# Altium footprint library COMPONENTES.PcbLib: 191 footprints (part 2 of 12)
Each footprint in its own frame and in the unit in brackets; x right, y up, seen from the top. Pads: shape width x height; smd on the part's side, far side on the other; paste and mask are expansions set on the pad; w line width, h text height; cw(c..) or ccw(c..) is an arc to the next point about the centre after c.
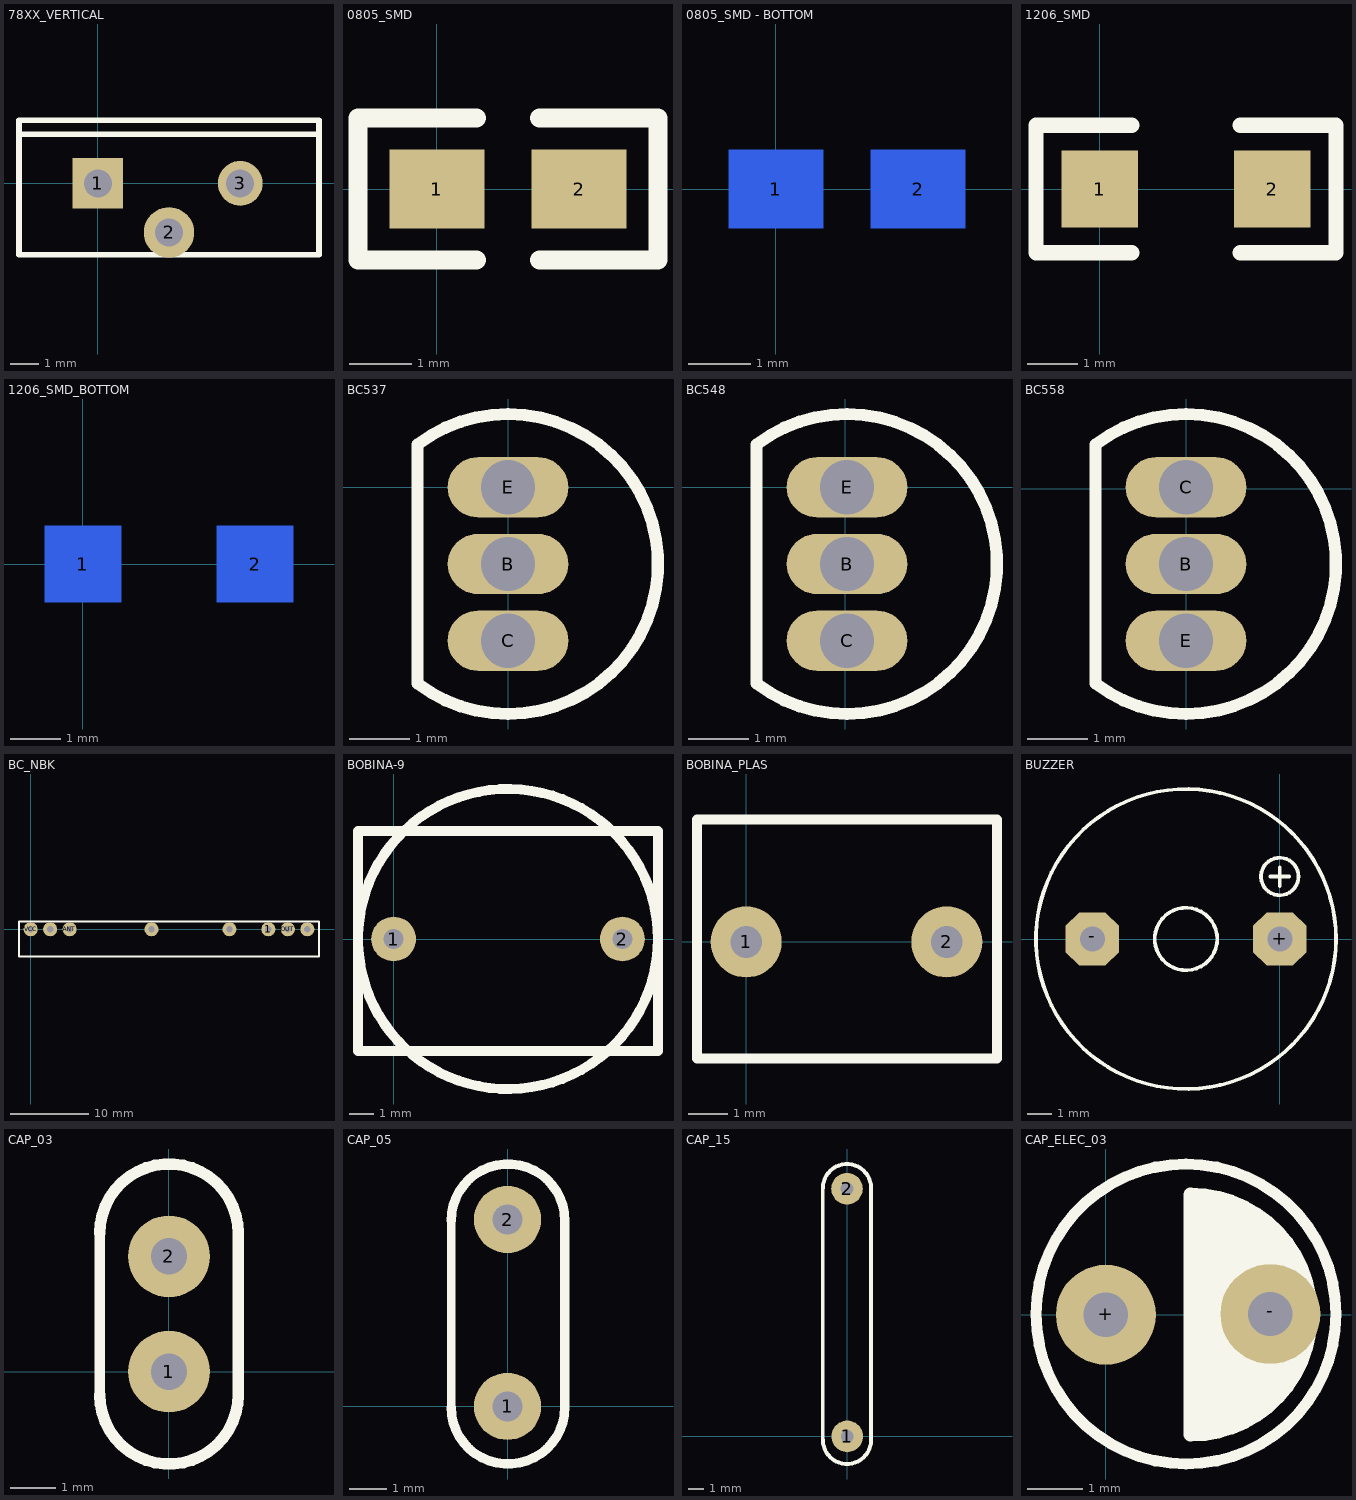
[diagram p1: the footprints below, top view; thin cyan lines are the x and y axes]

## 78XX_VERTICAL [mm] "TO, Thru-Hole, Vertical, Heatsink Mounted; 3 In-Line Leads; Pitch 2.54 mm"
height 19.1
pads (3):
  rect 1.8x1.8 hole 1: 1(0,0)
  round 1.8 hole 1: 2(2.54,-1.75)
  round 1.6 hole 1: 3(5.08,0)
Top Overlay:
  lines w0.2: -2.81,1.75 7.89,1.75 ; -2.81,-2.55 -2.81,2.25 7.89,2.25 7.89,-2.55 -2.81,-2.55

## 0805_SMD [mil]
height 104.33
pads (2):
  rect 60x50 smd: 1(0,0) 2(90,0)
Top Overlay:
  lines w12: 25,-45 -50,-45 -50,45 25,45 ; 65,-45 140,-45 140,45 65,45

## 0805_SMD - BOTTOM [mil]
height 104.33
pads (2):
  rect 60x50 smd far side: 1(0,0) 2(90,0)
Bottom Overlay:
  lines w12: 25,-45 -50,-45 -50,45 25,45 ; 65,-45 140,-45 140,45 65,45

## 1206_SMD [mil]
height 104.33
pads (2):
  rect 60x60 smd: 1(0,0) 2(135,0)
Top Overlay:
  lines w12: 25,-50 -50,-50 -50,50 25,50 ; 110,-50 185,-50 185,50 110,50

## 1206_SMD_BOTTOM [mil]
height 104.33
pads (2):
  rect 60x60 smd far side: 1(0,0) 2(135,0)
Bottom Overlay:
  lines w12: 25,-50 -50,-50 -50,50 25,50 ; 110,-50 185,-50 185,50 110,50

## BC537 [mm]
pads (3):
  oval 2x1 hole 0.9: B(0,-1.27) C(0,-2.54) E(0,0)
Top Overlay:
  lines w0.2: -1.5,-3.25 ccw(c0,-1.27) -1.5,0.71 -1.5,-3.25

## BC548 [mm]
pads (3):
  oval 2x1 hole 0.9: B(0.025,-1.27) C(0.025,-2.54) E(0.025,0)
Top Overlay:
  lines w0.2: -1.475,-3.25 ccw(c0.025,-1.27) -1.475,0.71 -1.475,-3.25

## BC558 [mm]
pads (3):
  oval 2x1 hole 0.9: B(0,-1.245) C(0,0.025) E(0,-2.515)
Top Overlay:
  lines w0.2: -1.5,-3.225 ccw(c0,-1.245) -1.5,0.735 -1.5,-3.225

## BC_NBK [mm]
height 2.65
pads (8):
  round 1.8 hole 0.8: 1(30.5,0) ANT(5,0) GND1(2.5,0) GND2(15.5,0) GND3(25.5,0) OUT(33,0) VCC(0,0) VCC1(35.5,0)
Top Overlay:
  lines w0.305: -1.5,-3.5 -1.5,1 37,1 37,-3.5 -1.5,-3.5

## BOBINA-9 [mm]
height 2.65
pads (2):
  round 1.8 hole 0.8: 1(0,0) 2(9.2,0)
Top Overlay:
  circle w0.4: c4.6,0 r6.03
  lines w0.4: -1.425,-4.5 -1.425,4.35 10.625,4.35 10.625,-4.5 -1.375,-4.5

## BOBINA_PLAS [mm]
height 2.65
pads (2):
  round 1.8 hole 0.8: 1(0,0) 2(5.08,0)
Top Overlay:
  lines w0.254: -1.245,-2.945 6.35,-2.945 6.35,3.095 -1.245,3.095 -1.245,-2.945

## BUZZER [mil]
height 354.33
pads (2):
  oct 85x85 hole 40: +(0,0) -(-300,0)
Top Overlay:
  circle w6: c0,100 r30
  circle w6: c-150,0 r50
  circle w6: c-150,0 r240
  lines w6: -15,100 15,100 ; 0,85 0,115

## CAP_03 [mm]
height 2.65
pads (2):
  round 1.8 hole 0.8: 1(0,0) 2(0,2.54)
Top Overlay:
  lines w0.229: -1.524,-0.508 -1.524,3.048
  lines w0.254: -1.524,-0.508 ccw(c0,-0.508) 1.524,-0.508 1.524,3.048 ccw(c0,3.048) -1.524,3.048

## CAP_05 [mm]
height 2.65
pads (2):
  round 1.8 hole 0.8: 1(0,0) 2(0,5)
Top Overlay:
  lines w0.229: -1.512,-0.018 -1.512,4.963
  lines w0.254: -1.512,-0.018 ccw(c0.012,-0.018) 1.536,-0.018 1.536,4.963 ccw(c0.012,4.963) -1.512,4.963

## CAP_15 [mm]
height 2.65
pads (2):
  round 2 hole 0.8: 1(0,0) 2(-0.013,15.655)
Top Overlay:
  lines w0.229: -1.537,-0.218 -1.537,15.688
  lines w0.254: -1.537,-0.218 ccw(c-0.013,-0.218) 1.511,-0.218 1.511,15.688 ccw(c-0.013,15.688) -1.537,15.688

## CAP_ELEC_03 [mm]
height 2.65
pads (2):
  round 1.8 hole 0.8: +(0,0) -(2.962,0.013)
Top Overlay:
  circle w0.2: c1.442,0.013 r2.7
  rectangle: 1.524,-1.651 2.921,1.524
  rectangle: 2.667,-1.016 3.429,0.889
  rectangle: 2.921,0.889 3.048,1.524
  rectangle: 2.921,0.889 3.302,1.143
  rectangle: 1.524,1.397 2.413,1.905
  rectangle: 1.524,-2.032 2.159,-1.524
  rectangle: 2.667,-1.27 3.175,-1.016
  rectangle: 2.159,-1.905 2.413,-1.524
  rectangle: 2.159,-1.778 2.667,-1.524
  lines w0.254: 1.524,-1.016 2.667,-1.016 2.667,-1.778 ; 1.625,1.975 2.275,1.975 2.8,1.45 ; 1.65,-2.075 1.65,-1.95 ; 2.25,-1.9 2.45,-1.7 2.6,-1.7 ; 2.325,1.7 2.375,1.7 2.575,1.5 ; 2.8,-1.175 3.05,-1.425 3.05,-1.475 ; 2.95,-1.425 3.275,-1.1 3.275,-1.075 ; 3.025,1.3 3.302,1.023 3.302,0.889 ; 3.05,-1.075 3.375,-1.075 ; 1.524,-2.159 ccw(c1.524,0) 1.524,2.159 1.524,-2.159